# EAGLE library part RASPBERRY_PI_PICO (library Dal_V2)
Raspberry PI PICO Board
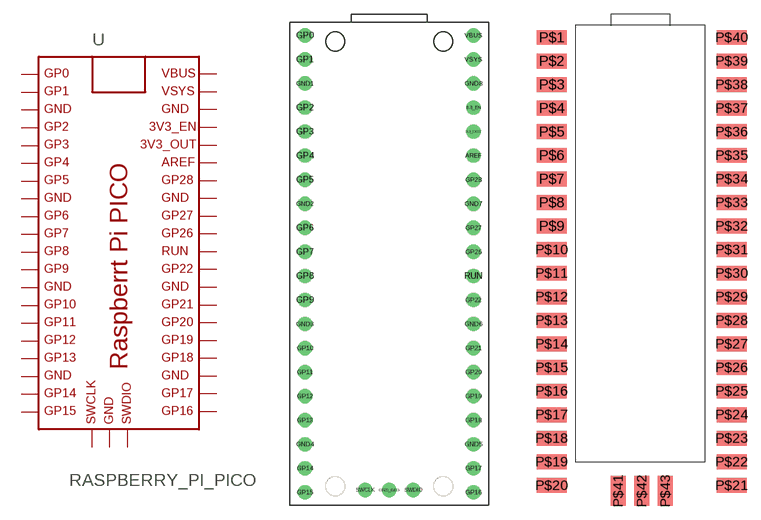
[diagram p30: symbol with the pads of RASP_PI_PICO_HOLES; footprints RASP_PI_PICO_HOLES, RASP_PI_PICO_SMD]

Designator prefix -

## RASPBERRY_PI_PICOHOLES  [RASP_PI_PICO_HOLES]
3.3_EN  3.3_EN
3.3_OUT  3.3_OUT
AREF  AREF
GND1  GND1  in
GND2  GND2  in
GND3  GND3  in
GND4  GND4  in
GND5  GND5  in
GND6  GND6  in
GND7  GND7  in
GND8  GND8  in
GND_DEG  GND_DEBUG  in
GP0  GP0
GP1  GP1
GP2  GP2
GP3  GP3
GP4  GP4
GP5  GP5
GP6  GP6
GP7  GP7
GP8  GP8
GP9  GP9
GP10  GP10
GP11  GP11
GP12  GP12
GP13  GP13
GP14  GP14
GP15  GP15
GP16  GP16
GP17  GP17
GP18  GP18
GP19  GP19
GP20  GP20
GP21  GP21
GP22  GP22
GP26  GP26
GP27  GP27
GP28  GP28
RUN  RUN
SWCLK  SWCLK
SWDIO  SWDIO
VBUS  VBUS
VSYS  VSYS

## RASPBERRY_PI_PICOSMD  [RASP_PI_PICO_SMD]
P$1  GP0
P$2  GP1
P$3  GND1  in
P$4  GP2
P$5  GP3
P$6  GP4
P$7  GP5
P$8  GND2  in
P$9  GP6
P$10  GP7
P$11  GP8
P$12  GP9
P$13  GND3  in
P$14  GP10
P$15  GP11
P$16  GP12
P$17  GP13
P$18  GND4  in
P$19  GP14
P$20  GP15
P$21  GP16
P$22  GP17
P$23  GND5  in
P$24  GP18
P$25  GP19
P$26  GP20
P$27  GP21
P$28  GND6  in
P$29  GP22
P$30  RUN
P$31  GP26
P$32  GP27
P$33  GND7  in
P$34  GP28
P$35  AREF
P$36  3.3_OUT
P$37  3.3_EN
P$38  GND8  in
P$39  VSYS
P$40  VBUS
P$41  SWCLK
P$42  GND_DEBUG  in
P$43  SWDIO

## Footprint RASP_PI_PICO_HOLES (pad centres in mm)
drill 1: 3.3_EN 8.89,40.64; 3.3_OUT 8.89,38.1; AREF 8.89,35.56; GND1 -8.89,43.18; GND2 -8.89,30.48; GND3 -8.89,17.78; GND4 -8.89,5.08; GND5 8.89,5.08; GND6 8.89,17.78; GND7 8.89,30.48; GND8 8.89,43.18; GND_DEG 0,0.23; GP0 -8.89,48.26; GP1 -8.89,45.72; GP2 -8.89,40.64; GP3 -8.89,38.1; GP4 -8.89,35.56; GP5 -8.89,33.02; GP6 -8.89,27.94; GP7 -8.89,25.4; GP8 -8.89,22.86; GP9 -8.89,20.32; GP10 -8.89,15.24; GP11 -8.89,12.7; GP12 -8.89,10.16; GP13 -8.89,7.62; GP14 -8.89,2.54; GP15 -8.89,0; GP16 8.89,0; GP17 8.89,2.54; GP18 8.89,7.62; GP19 8.89,10.16; GP20 8.89,12.7; GP21 8.89,15.24; GP22 8.89,20.32; GP26 8.89,25.4; GP27 8.89,27.94; GP28 8.89,33.02; RUN 8.89,22.86; SWCLK -2.54,0.23; SWDIO 2.54,0.23; VBUS 8.89,48.26; VSYS 8.89,45.72

## Footprint RASP_PI_PICO_SMD (pad centres in mm)
smd 3.2 x 1.6: P$1 0,0; P$2 0,-2.54; P$3 0,-5.08; P$4 0,-7.62; P$5 0,-10.16; P$6 0,-12.7; P$7 0,-15.24; P$8 0,-17.78; P$9 0,-20.32; P$10 0,-22.86; P$11 0,-25.4; P$12 0,-27.94; P$13 0,-30.48; P$14 0,-33.02; P$15 0,-35.56; P$16 0,-38.1; P$17 0,-40.64; P$18 0,-43.18; P$19 0,-45.72; P$20 0,-48.26; P$21 19.38,-48.26; P$22 19.38,-45.72; P$23 19.38,-43.18; P$24 19.38,-40.64; P$25 19.38,-38.1; P$26 19.38,-35.56; P$27 19.38,-33.02; P$28 19.38,-30.48; P$29 19.38,-27.94; P$30 19.38,-25.4; P$31 19.38,-22.86; P$32 19.38,-20.32; P$33 19.38,-17.78; P$34 19.38,-15.24; P$35 19.38,-12.7; P$36 19.38,-10.16; P$37 19.38,-7.62; P$38 19.38,-5.08; P$39 19.38,-2.54; P$40 19.38,0
smd 1.6 x 3.2: P$41 7.15,-48.83; P$42 9.69,-48.83; P$43 12.23,-48.83